# Altium schematic symbol library SCH - POWER - MODULE - GAPTEC 3S7B_3U SINGLE.SCHLIB: 1 symbol
Pins are listed as number, name and electrical type; pins without a type are passive.

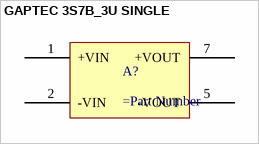
[diagram p0: symbol GAPTEC 3S7B_3U SINGLE]

## GAPTEC 3S7B_3U SINGLE
designator A?
pins: 1 +VIN, 2 -VIN, 5 -VOUT, 7 +VOUT